# EAGLE library part ICE40LP384-SG32 (library Lattice)
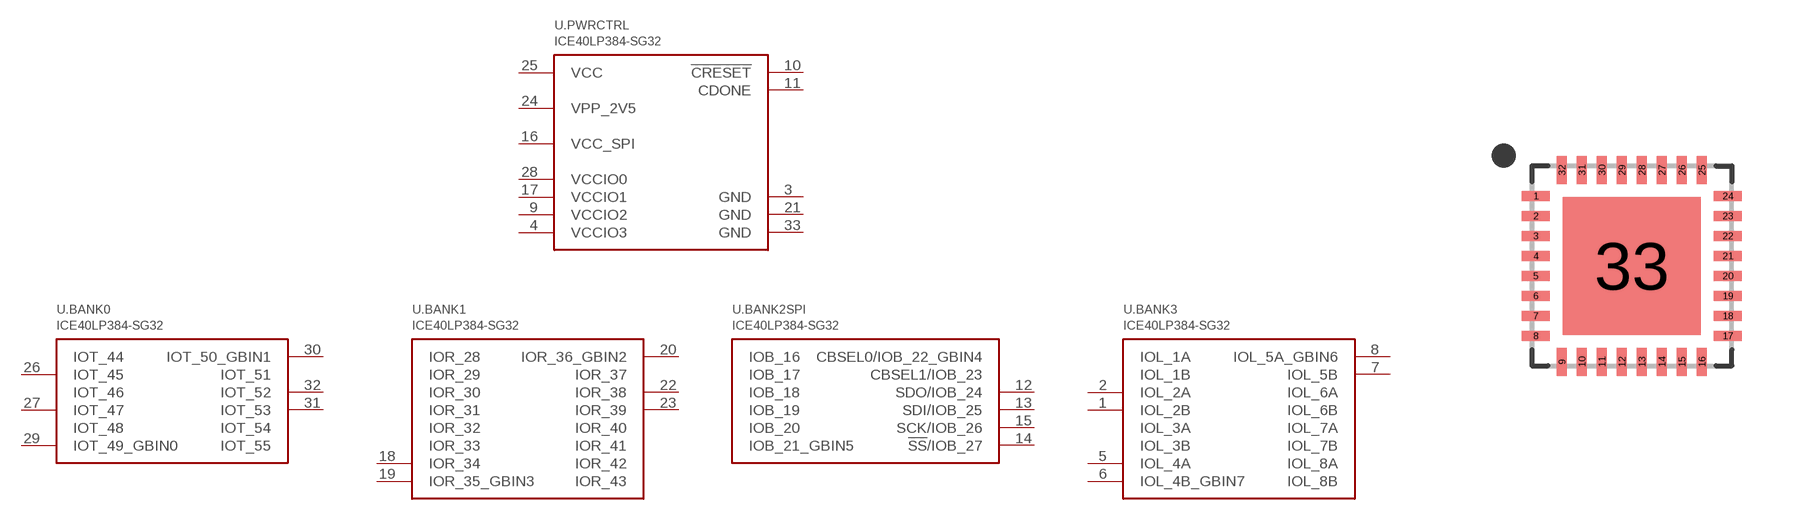
[diagram p1: symbol with the pads of QFN32; footprint QFN32]

Designator prefix U; gates .PWRCTRL=ICE40LP384-SG32-PWRCTRL .BANK0=ICE40LP384-SG32-BANK0 .BANK1=ICE40LP384-SG32-BANK1 .BANK2SPI=ICE40LP384-SG32-BANK2SPI .BANK3=ICE40LP384-SG32-BANK3

## ICE40LP384-SG32  [QFN32]
1  .BANK3:IOL_2B
2  .BANK3:IOL_2A
3  .PWRCTRL:GND  pwr
4  .PWRCTRL:VCCIO3  pwr
5  .BANK3:IOL_4A
6  .BANK3:IOL_4B_GBIN7
7  .BANK3:IOL_5B
8  .BANK3:IOL_5A_GBIN6
9  .PWRCTRL:VCCIO2  pwr
10  .PWRCTRL:!CRESET  pas
11  .PWRCTRL:CDONE  pas
12  .BANK2SPI:SDO/IOB_24
13  .BANK2SPI:SDI/IOB_25
14  .BANK2SPI:!SS!/IOB_27
15  .BANK2SPI:SCK/IOB_26
16  .PWRCTRL:VCC_SPI  pwr
17  .PWRCTRL:VCCIO1  pwr
18  .BANK1:IOR_34
19  .BANK1:IOR_35_GBIN3
20  .BANK1:IOR_36_GBIN2
21  .PWRCTRL:GND  pwr
22  .BANK1:IOR_38
23  .BANK1:IOR_39
24  .PWRCTRL:VPP_2V5  pwr
25  .PWRCTRL:VCC  pwr
26  .BANK0:IOT_45
27  .BANK0:IOT_47
28  .PWRCTRL:VCCIO0  pwr
29  .BANK0:IOT_49_GBIN0
30  .BANK0:IOT_50_GBIN1
31  .BANK0:IOT_53
32  .BANK0:IOT_52
33  .PWRCTRL:GND  pwr

## Footprint QFN32 (pad centres in mm)
smd 0.7 x 0.25: 1 -2.4,1.75; 2 -2.4,1.25; 3 -2.4,0.75; 4 -2.4,0.25; 5 -2.4,-0.25; 6 -2.4,-0.75; 7 -2.4,-1.25; 8 -2.4,-1.75; 17 2.4,-1.75; 18 2.4,-1.25; 19 2.4,-0.75; 20 2.4,-0.25; 21 2.4,0.25; 22 2.4,0.75; 23 2.4,1.25; 24 2.4,1.75
smd 0.25 x 0.7: 9 -1.75,-2.4; 10 -1.25,-2.4; 11 -0.75,-2.4; 12 -0.25,-2.4; 13 0.25,-2.4; 14 0.75,-2.4; 15 1.25,-2.4; 16 1.75,-2.4; 25 1.75,2.4; 26 1.25,2.4; 27 0.75,2.4; 28 0.25,2.4; 29 -0.25,2.4; 30 -0.75,2.4; 31 -1.25,2.4; 32 -1.75,2.4
smd 3.45 x 3.45: 33 0,0